# EAGLE library part ARDUINO_UNO (library FlashPCB_DevBoards)
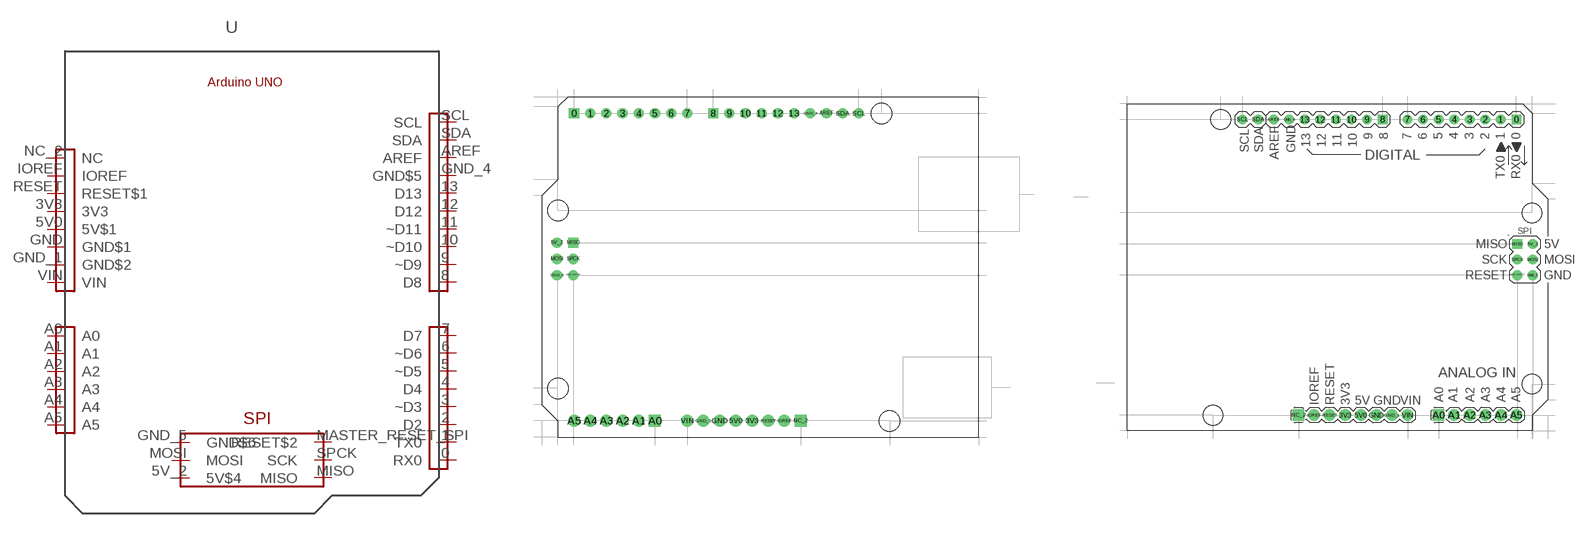
[diagram p5: symbol with the pads of ARDUINO_UNO; footprints ARDUINO_UNO, ARDUINO_UNO_SHIELD]

Designator prefix U

## ARDUINO_UNOARDUINO_UNO  [ARDUINO_UNO]
0  RX0
1  TX0
2  D2
3  ~D3
3V3  3V3
4  D4
5  ~D5
5V0  5V$1
5V_2  5V$4
6  ~D6
7  D7
8  D8
9  ~D9
10  ~D10
11  ~D11
12  D12
13  D13
A0  A0
A1  A1
A2  A2
A3  A3
A4  A4
A5  A5
AREF  AREF
GND  GND$1
GND_1  GND$2
GND_4  GND$5
GND_5  GND$6
IOREF  IOREF
MASTER_RESET_SPI  RESET$2
MISO  MISO
MOSI  MOSI
NC_2  NC
RESET  RESET$1
SCL  SCL
SDA  SDA
SPCK  SCK
VIN  VIN

## ARDUINO_UNOARDUINO_UNO_SHIELD  [ARDUINO_UNO_SHIELD]
Pads as for ARDUINO_UNO

## Footprint ARDUINO_UNO (pad centres in mm)
kitID='6345d01749babf92f2962484'
drill 1.067 square: 0 -63.5,50.8; 8 -41.656,50.8; MISO -63.627,30.48
drill 1.067: 1 -60.96,50.8; 2 -58.42,50.8; 3 -55.88,50.8; 4 -53.34,50.8; 5 -50.8,50.8; 5V_2 -66.167,30.48; 6 -48.26,50.8; 7 -45.72,50.8; 9 -39.116,50.8; 10 -36.576,50.8; 11 -34.036,50.8; 12 -31.496,50.8; 13 -28.956,50.8; AREF -23.876,50.8; GND_4 -26.416,50.8; GND_5 -66.167,25.4; MASTER_RESET_SPI -63.627,25.4; MOSI -66.167,27.94; SCL -18.796,50.8; SDA -21.336,50.8; SPCK -63.627,27.94
drill 1.016 pad 1.88: 3V3 -35.56,2.54; 5V0 -38.1,2.54; A1 -53.34,2.54; A2 -55.88,2.54; A3 -58.42,2.54; A4 -60.96,2.54; A5 -63.5,2.54; GND -40.64,2.54; GND_1 -43.18,2.54; IOREF -30.48,2.54; RESET -33.02,2.54; VIN -45.72,2.54
drill 1.016 pad 1.88 square: A0 -50.8,2.54; NC_2 -27.94,2.54
hole 3.2 at -13.97,2.54
hole 3.2 at -66.04,35.56
hole 3.2 at -66.04,7.62
hole 3.2 at -15.24,50.8

## Footprint ARDUINO_UNO_SHIELD (pad centres in mm)
kitID='6345d01649babf92f296247e'
drill 1.067 square: 0 63.5,50.8; 8 41.656,50.8; MISO 63.627,30.48
drill 1.067: 1 60.96,50.8; 2 58.42,50.8; 3 55.88,50.8; 4 53.34,50.8; 5 50.8,50.8; 5V_2 66.167,30.48; 6 48.26,50.8; 7 45.72,50.8; 9 39.116,50.8; 10 36.576,50.8; 11 34.036,50.8; 12 31.496,50.8; 13 28.956,50.8; AREF 23.876,50.8; GND_4 26.416,50.8; GND_5 66.167,25.4; MASTER_RESET_SPI 63.627,25.4; MOSI 66.167,27.94; SCL 18.796,50.8; SDA 21.336,50.8; SPCK 63.627,27.94
drill 1.016 pad 1.88: 3V3 35.56,2.54; 5V0 38.1,2.54; A1 53.34,2.54; A2 55.88,2.54; A3 58.42,2.54; A4 60.96,2.54; A5 63.5,2.54; GND 40.64,2.54; GND_1 43.18,2.54; IOREF 30.48,2.54; RESET 33.02,2.54; VIN 45.72,2.54
drill 1.016 pad 1.88 square: A0 50.8,2.54; NC_2 27.94,2.54
hole 3.2 at 13.97,2.54
hole 3.2 at 66.04,35.56
hole 3.2 at 66.04,7.62
hole 3.2 at 15.24,50.8